# Altium schematic symbol library QUTMS_IntegratedCircuitLibrary.SchLib: 6 symbols
Pins are listed as number, name and electrical type; pins without a type are passive.

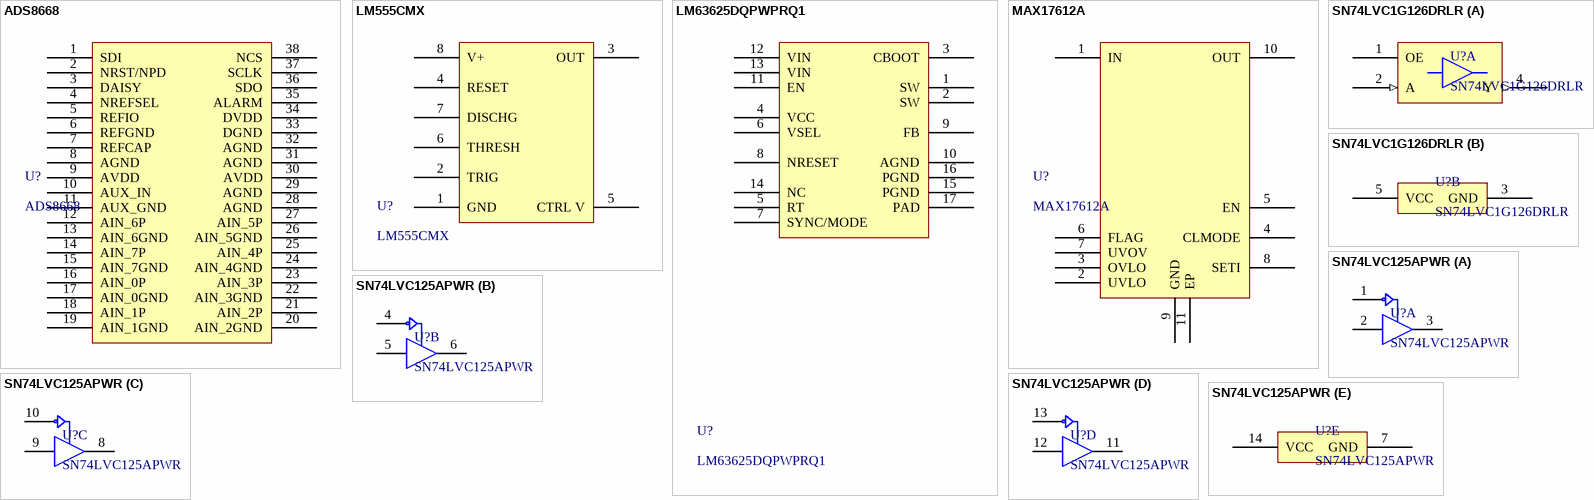
[diagram p0: symbols ADS8668 to SN74LVC125APWR]

## ADS8668
designator U?
12 Bit Analog to Digital Converter 8 Input 1 SAR 38-TSSOP
pins: 1 SDI, 2 NRST/NPD, 3 DAISY, 4 NREFSEL, 5 REFIO, 6 REFGND, 7 REFCAP, 8 AGND, 9 AVDD, 10 AUX_IN, 11 AUX_GND, 12 AIN_6P, 13 AIN_6GND, 14 AIN_7P, 15 AIN_7GND, 16 AIN_0P, 17 AIN_0GND, 18 AIN_1P, 19 AIN_1GND, 20 AIN_2GND, 21 AIN_2P, 22 AIN_3GND, 23 AIN_3P, 24 AIN_4GND, 25 AIN_4P, 26 AIN_5GND, 27 AIN_5P, 28 AGND, 29 AGND, 30 AVDD, 31 AGND, 32 AGND, 33 DGND, 34 DVDD, 35 ALARM, 36 SDO, 37 SCLK, 38 NCS

## LM555CMX
designator U?
555 Type, Timer/Oscillator (Single) IC 100kHz 8-SOIC; ComponentLink1Description: Digikey; ComponentLink1URL: https://www.digikey.com.au/product-detail/en/texas-instruments/LM555CMX%2FNOPB/LM555CMX%2FNOPBCT-ND/1010545?utm_adgroup=Integrated%20Circuits&utm_source=google&utm_medium=cpc&utm_campaign=Dynamic%20Search_EN_Product&utm_term=&productid=&gclid=CjwKCAjwr7X4BRA4EiwAUXjbt-N3vibcCncJp7dB6lpBrLRT-QxYTJoHZmGPqFSswFIeP9Lhu7cYVBoCjmMQAvD_BwE; ComponentLink2Description: Datasheet; ComponentLink2URL: https://www.ti.com/general/docs/suppproductinfo.tsp?distId=10&gotoUrl=http%3A%2F%2Fwww.ti.com%2Flit%2Fgpn%2Flm555
footprint 8-SOIC
pins: 1 GND, 2 TRIG, 3 OUT, 4 RESET, 5 CTRL V, 6 THRESH, 7 DISCHG, 8 V+

## LM63625DQPWPRQ1
designator U?
Buck Switching Regulator IC Positive Adjustable 1V 1 Output 2.5A 16-PowerTSSOP (0.173", 4.40mm Width); ComponentLink1Description: Digikey; ComponentLink1URL: https://www.digikey.ee/product-detail/en/texas-instruments/LM63625DQPWPRQ1/296-LM63625DQPWPRQ1CT-ND/10716102; ComponentLink2Description: Datasheet; ComponentLink2URL: https://www.ti.com/general/docs/suppproductinfo.tsp?distId=10&gotoUrl=http%3A%2F%2Fwww.ti.com%2Flit%2Fgpn%2Flm555
pins: 1 SW, 2 SW, 3 CBOOT, 4 VCC, 5 RT, 6 VSEL, 7 SYNC/MODE, 8 NRESET, 9 FB, 10 AGND, 11 EN, 12 VIN, 13 VIN, 14 NC, 15 PGND, 16 PGND, 17 PAD

## MAX17612A
designator U?
Overvoltage, Undervoltage Protection PMIC 10-TDFN-EP (3x3)
footprint 10-Pin TDFN EP
pins: 1 IN, 2 UVLO, 3 OVLO, 4 CLMODE, 5 EN, 6 FLAG, 7 UVOV, 8 SETI, 9 GND, 10 OUT, 11 EP

## SN74LVC1G126DRLR
designator U?
Buffer, Non-Inverting 1 Element 1 Bit per Element 3-State Output SOT-5
footprint SOT-553
part A pins: 1 OE, 2 A (in), 4 Y (out)
part B pins: 3 GND, 5 VCC

## SN74LVC125APWR
designator U?
Buffer, Non-Inverting 4 Element 1 Bit per Element 3-State Output 14-TSSOP
footprint TSSOP-14
part A pins: 1 3, 2 3, 3 4
part B pins: 4 3, 5 3, 6 4
part C pins: 8 4, 9 3, 10 3
part D pins: 11 4, 12 3, 13 3
part E pins: 7 GND, 14 VCC